# Altium schematic symbol library Resistor_0805.Schlib: 1 symbol
Pins are listed as number, name and electrical type; pins without a type are passive.

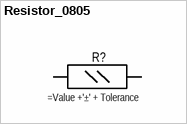
[diagram p0: symbol Resistor_0805]

## Resistor_0805
designator R?
pins: 1, 2